# EAGLE library part IS31SE5100-SALS2 (library Brundage Buisness Card)
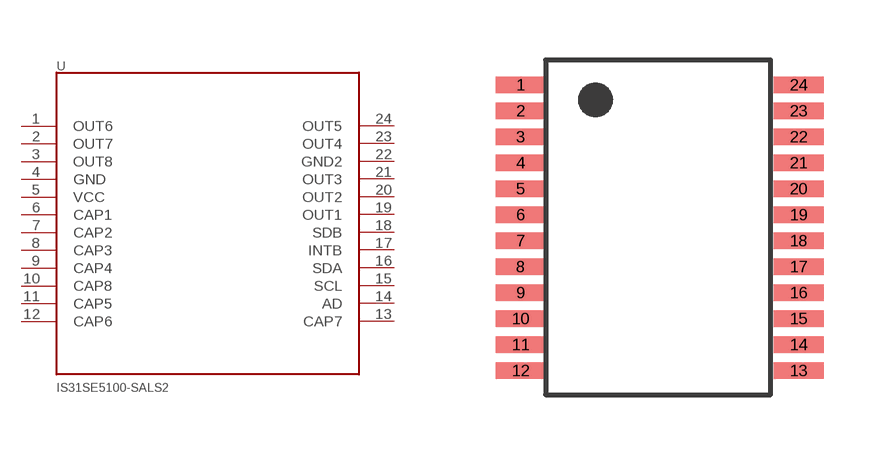
[diagram p1: symbol with the pads of IS31SE5100-SALS2; footprint IS31SE5100-SALS2]

Designator prefix -

## IS31SE5100-SALS2  [IS31SE5100-SALS2]
1  OUT6
2  OUT7
3  OUT8
4  GND
5  VCC
6  CAP1
7  CAP2
8  CAP3
9  CAP4
10  CAP8
11  CAP5
12  CAP6
13  CAP7
14  AD
15  SCL
16  SDA
17  INTB
18  SDB
19  OUT1
20  OUT2
21  OUT3
22  GND2
23  OUT4
24  OUT5

## Footprint IS31SE5100-SALS2 (pad centres in mm)
smd 1.25 x 0.42: 1 0,0; 2 0,-0.65; 3 0,-1.3; 4 0,-1.95; 5 0,-2.6; 6 0,-3.25; 7 0,-3.9; 8 0,-4.55; 9 0,-5.2; 10 0,-5.85; 11 0,-6.5; 12 0,-7.15; 13 6.95,-7.15; 14 6.95,-6.5; 15 6.95,-5.85; 16 6.95,-5.2; 17 6.95,-4.55; 18 6.95,-3.9; 19 6.95,-3.25; 20 6.95,-2.6; 21 6.95,-1.95; 22 6.95,-1.3; 23 6.95,-0.65; 24 6.95,0